# Altium footprint library CAP_RAD_RECT_22.5-8.5.PcbLib: 1 footprints
Each footprint in its own frame and in the unit in brackets; x right, y up, seen from the top. Pads: shape width x height; smd on the part's side, far side on the other; paste and mask are expansions set on the pad; w line width, h text height; cw(c..) or ccw(c..) is an arc to the next point about the centre after c.
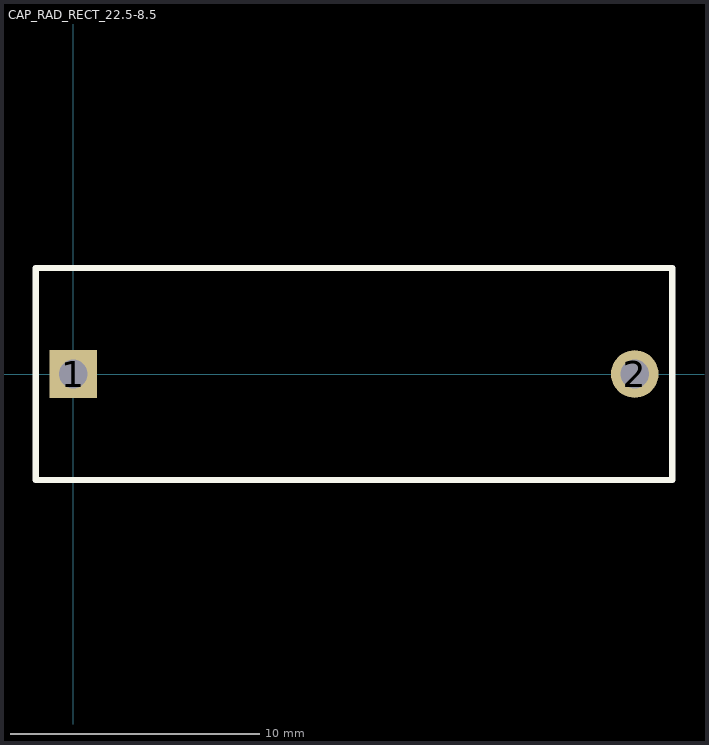
[diagram p0: the footprint, top view; thin cyan lines are the x and y axes]

## CAP_RAD_RECT_22.5-8.5 [mil]
pads (2):
  rect 75x75 hole 45: 1(0,0)
  round 75 hole 45: 2(885.83,0)
Top Overlay:
  lines w10: -59.06,-167.32 -59.06,167.32 944.88,167.32 944.88,-167.32 -59.06,-167.32
3D body: height 709, standoff 0, extent -63,-171 949,171